# Altium footprint library composants passifs.pcblib: 53 footprints (part 4 of 4)
Each footprint in its own frame and in the unit in brackets; x right, y up, seen from the top. Pads: shape width x height; smd on the part's side, far side on the other; paste and mask are expansions set on the pad; w line width, h text height; cw(c..) or ccw(c..) is an arc to the next point about the centre after c.
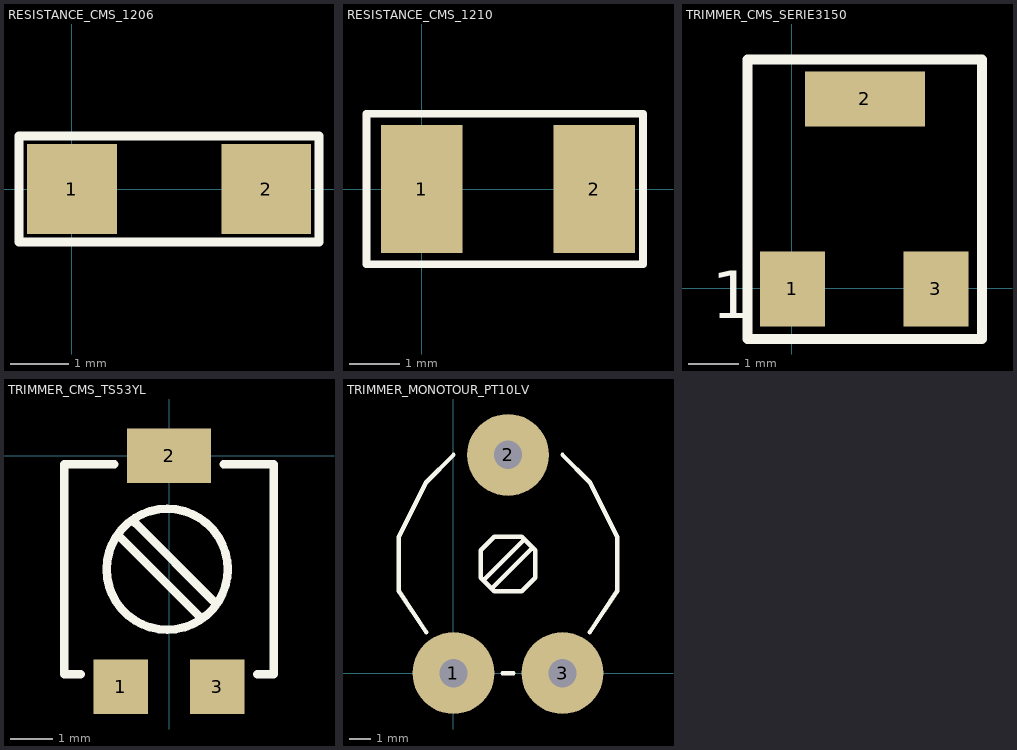
[diagram p3: the footprints below, top view; thin cyan lines are the x and y axes]

## RESISTANCE_CMS_1206 [mil] "RESISTANCE CMS 1206 ; DIMENSIONS : 3.2mm x 1.6mm"
height 23.62
pads (2):
  rect 60x60 smd: 1(0,0) 2(130,0)
Top Overlay:
  lines w6: -35.43,-35.43 165.35,-35.43 165.35,35.43 -35.43,35.43 -35.43,-35.43
3D body: height 39.45, standoff 0, extent 0,-31.5 125.98,31.5

## RESISTANCE_CMS_1210 [mil] "RESISTANCE CMS 1210 ; DIMENSIONS : 3.2mm x 2.6mm"
height 23.62
pads (2):
  rect 64x100 smd: 1(0,0) 2(135,0)
Top Overlay:
  lines w6: -43.31,-59.06 -43.31,59.06 173.23,59.06 173.23,-59.06 -43.31,-59.06
3D body: height 24.02, standoff -0.39, extent 3.54,-48.03 130.31,51.18

## TRIMMER_CMS_SERIE3150 [mm] "TRIMMER CMS SERIE 3150 ; DIMENSIONS : 3.4mm x 3.6mm"
height 1.4
pads (3):
  rect 1.3x1.5 smd: 1(0.013,-0.013) 3(2.883,-0.013)
  rect 2.4x1.1 smd: 2(1.46,3.785)
Top Overlay:
  lines w0.2: -0.889,-1.016 3.81,-1.016 3.81,4.572 -0.889,4.572 -0.889,-1.016
  text "1" at -1.6,-0.6 h0.95
3D body: height 2, standoff 0, extent -0.2,0.1 3.2,3.7

## TRIMMER_CMS_TS53YL [mm] "TRIMMER CMS TS53YL ; DIMENSIONS : 6.2mm x 5mm ; ESPACEMENT BROCHES : 4.2mm ET 1mm"
height 2.7
pads (3):
  rect 1.3x1.3 smd: 1(-1.15,-5.5) 3(1.15,-5.5)
  rect 2x1.3 smd: 2(0,0)
Top Overlay:
  circle w0.2: c-0.042,-2.7 r1.442
  lines w0.2: -2.1,-5.2 -2.5,-5.2 -2.5,-0.2 -1.3,-0.2 ; -1.2,-1.9 0.75,-3.85 ; -0.8,-1.6 1.05,-3.45 ; 1.3,-0.2 2.5,-0.2 2.5,-5.2 2.1,-5.2
3D body: height 2.55, standoff 0, extent -2.5,-5.9 2.5,0.3

## TRIMMER_MONOTOUR_PT10LV [mil] "RESISTANCE VARIABLE MONOTOUR  PT10LV; DIMENSIONS : 10.16mm x 5.08mm"
height 236.22
pads (3):
  round 150 hole 52: 1(0,0) 2(100,400) 3(200,0)
Top Overlay:
  lines w8: -50,75 -100,150 -100,250 -50,350 0,400 ; 55,170 130,245 ; 70,155 145,230 ; 90,0 110,0 ; 200,400 250,350 300,250 300,150 250,75 ; 50,175 75,150 125,150 150,175 150,225 125,250 75,250 50,225 50,175
3D body: height 246.46, standoff -137.8, extent -102.36,-9.06 303.15,408.27